# EAGLE library part MT46H128M16LFDD-48_IT_C_TR (library MT46H128M16LFDD-48_IT_C_TR)
DRAM MOBILE DDR 2G 128MX16 FBGA Source: Datasheet <https://www.micron.com/-/media/client/global/documents/products/data-sheet/dram/mobile-dram/low-power-dram/lpddr/80-series/t89m_auto_lpddr.pdf?rev=f2b742cd54b841dd86c5e0c2a564daf7>
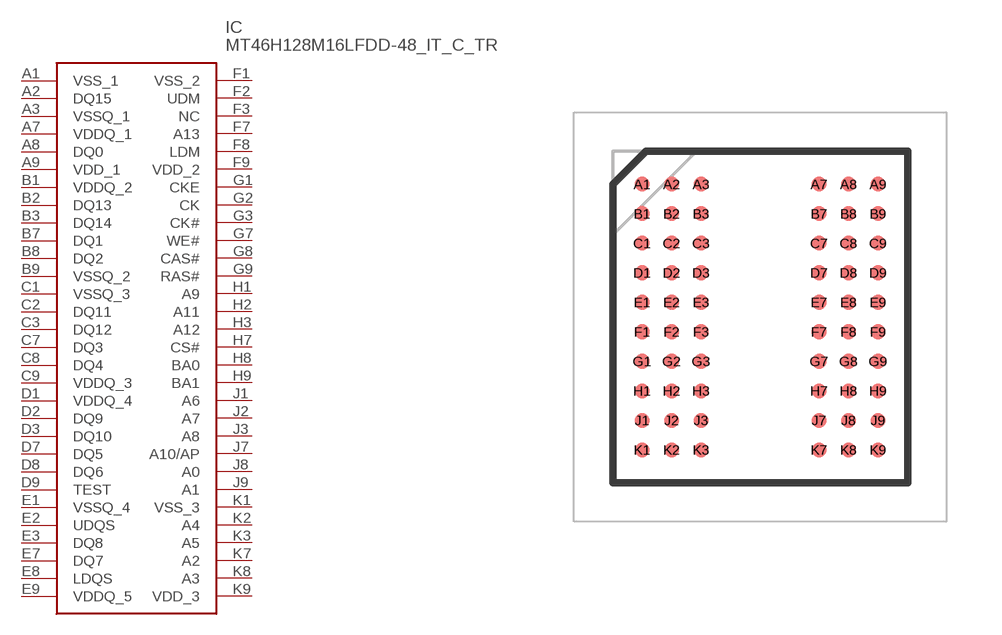
[diagram p0: symbol with the pads of BGA60C80P9X10_800X900X100; footprint BGA60C80P9X10_800X900X100]

Designator prefix IC

## MT46H128M16LFDD-48_IT_C_TR (Description: DRAM MOBILE DDR 2G 128MX16 FBGA; Height: 1mm; Manufacturer_Name: Micron; Manufacturer_Part_Number: MT46H128M16LFDD-48 IT:C TR; Mouser_Part_Number: 340-242388-REEL; Mouser_Price-Stock: https://www.mouser.co.uk/ProductDetail/Micron/MT46H128M16LFDD-48-ITC-TR?qs=taEdVNyAfdH9Uc4RiwxL6g%3D%3D)  [BGA60C80P9X10_800X900X100]
A1  VSS_1
A2  DQ15
A3  VSSQ_1
A7  VDDQ_1
A8  DQ0
A9  VDD_1
B1  VDDQ_2
B2  DQ13
B3  DQ14
B7  DQ1
B8  DQ2
B9  VSSQ_2
C1  VSSQ_3
C2  DQ11
C3  DQ12
C7  DQ3
C8  DQ4
C9  VDDQ_3
D1  VDDQ_4
D2  DQ9
D3  DQ10
D7  DQ5
D8  DQ6
D9  TEST
E1  VSSQ_4
E2  UDQS
E3  DQ8
E7  DQ7
E8  LDQS
E9  VDDQ_5
F1  VSS_2
F2  UDM
F3  NC  nc
F7  A13
F8  LDM
F9  VDD_2
G1  CKE
G2  CK
G3  CK#
G7  WE#
G8  CAS#
G9  RAS#
H1  A9
H2  A11
H3  A12
H7  CS#
H8  BA0
H9  BA1
J1  A6
J2  A7
J3  A8
J7  A10/AP
J8  A0
J9  A1
K1  VSS_3
K2  A4
K3  A5
K7  A2
K8  A3
K9  VDD_3

## Footprint BGA60C80P9X10_800X900X100 (pad centres in mm)
60-Ball VFBGA (8mm x 9mm), Package Code: DD
smd 0.41 x 0.41: A1 -3.2,3.6; A2 -2.4,3.6; A3 -1.6,3.6; A7 1.6,3.6; A8 2.4,3.6; A9 3.2,3.6; B1 -3.2,2.8; B2 -2.4,2.8; B3 -1.6,2.8; B7 1.6,2.8; B8 2.4,2.8; B9 3.2,2.8; C1 -3.2,2; C2 -2.4,2; C3 -1.6,2; C7 1.6,2; C8 2.4,2; C9 3.2,2; D1 -3.2,1.2; D2 -2.4,1.2; D3 -1.6,1.2; D7 1.6,1.2; D8 2.4,1.2; D9 3.2,1.2; E1 -3.2,0.4; E2 -2.4,0.4; E3 -1.6,0.4; E7 1.6,0.4; E8 2.4,0.4; E9 3.2,0.4; F1 -3.2,-0.4; F2 -2.4,-0.4; F3 -1.6,-0.4; F7 1.6,-0.4; F8 2.4,-0.4; F9 3.2,-0.4; G1 -3.2,-1.2; G2 -2.4,-1.2; G3 -1.6,-1.2; G7 1.6,-1.2; G8 2.4,-1.2; G9 3.2,-1.2; H1 -3.2,-2; H2 -2.4,-2; H3 -1.6,-2; H7 1.6,-2; H8 2.4,-2; H9 3.2,-2; J1 -3.2,-2.8; J2 -2.4,-2.8; J3 -1.6,-2.8; J7 1.6,-2.8; J8 2.4,-2.8; J9 3.2,-2.8; K1 -3.2,-3.6; K2 -2.4,-3.6; K3 -1.6,-3.6; K7 1.6,-3.6; K8 2.4,-3.6; K9 3.2,-3.6